# Altium schematic symbol library Schlib1.SchLib: 6 symbols
Pins are listed as number, name and electrical type; pins without a type are passive.

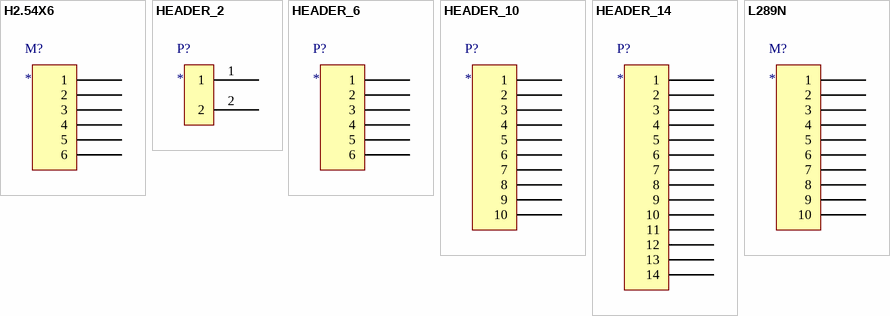
[diagram p0: symbols H2.54X6 to L289N]

## H2.54X6
designator M?
pins: 1, 2, 3, 4, 5, 6

## HEADER_2
designator P?
pins: 1, 2

## HEADER_6
designator P?
pins: 1, 2, 3, 4, 5, 6

## HEADER_10
designator P?
pins: 1, 2, 3, 4, 5, 6, 7, 8, 9, 10

## HEADER_14
designator P?
pins: 1, 2, 3, 4, 5, 6, 7, 8, 9, 10, 11, 12, 13, 14

## L289N
designator M?
pins: 1, 2, 3, 4, 5, 6, 7, 8, 9, 10